# Altium footprint library usbc-female.PcbLib: 1 footprints
Each footprint in its own frame and in the unit in brackets; x right, y up, seen from the top. Pads: shape width x height; smd on the part's side, far side on the other; paste and mask are expansions set on the pad; w line width, h text height; cw(c..) or ccw(c..) is an arc to the next point about the centre after c.
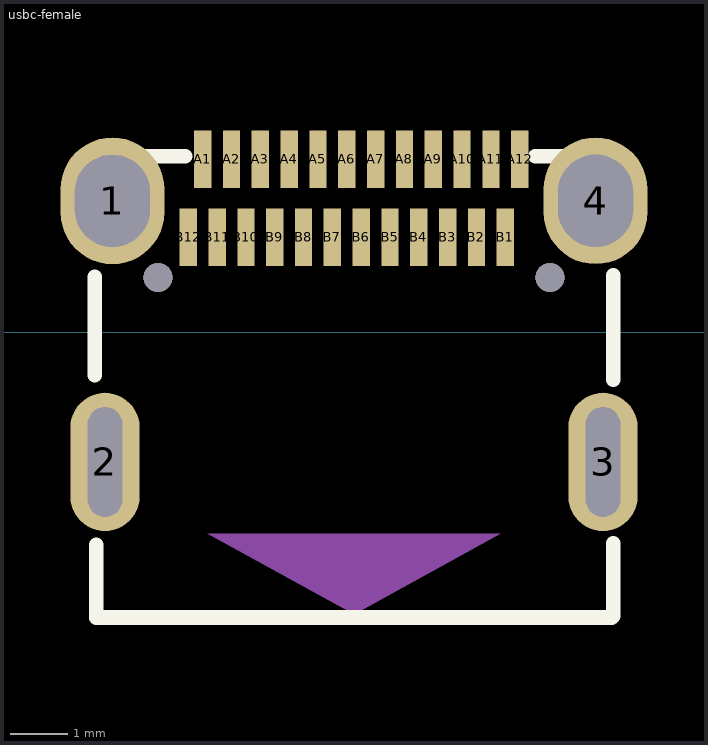
[diagram p0: the footprint, top view; thin cyan lines are the x and y axes]

## usbc-female [mm]
pads (30):
  oval 1.8x2.2 hole 1.3 slot 1.6 at 90 deg: 1(-22.924,2.277) 4(-14.542,2.277)
  oval 1.2x2.4 hole 0.6 slot 1.9 at 90 deg: 2(-23.053,-2.253) 3(-14.413,-2.253)
  rect 0.3x1 smd: A1(-21.358,2.997) A2(-20.858,2.997) A3(-20.358,2.997) A4(-19.858,2.997) A5(-19.358,2.997) A6(-18.858,2.997) A7(-18.358,2.997) A8(-17.858,2.997) A9(-17.358,2.997) A10(-16.858,2.997) A11(-16.358,2.997) A12(-15.858,2.997) B1(-16.108,1.647) B2(-16.608,1.647) B3(-17.108,1.647) B4(-17.608,1.647) B5(-18.108,1.647) B6(-18.608,1.647) B7(-19.108,1.647) B8(-19.608,1.647) B9(-20.108,1.647) B10(-20.608,1.647) B11(-21.108,1.647) B12(-21.608,1.647)
  round 0.5 hole 0.5 unplated: ""(-22.133,0.947) ""(-15.333,0.947)
Top Overlay:
  lines w0.254: -23.233,-0.751 -23.233,0.958 ; -23.202,-3.692 -23.202,-4.953 -14.259,-4.953 -14.233,-4.926 -14.233,-3.666 ; -22.354,3.047 -21.659,3.047 ; -15.585,3.047 -15.119,3.047 ; -14.233,-0.83 -14.233,0.985
Top Paste:
  drawing of 28 lines, arcs and shapes, not listed
Mechanical 15:
  circle w0.2: c-15.333,0.947 r0.1
  circle w0.2: c-22.133,0.947 r0.1
  region: -21.273,-3.501 -16.193,-3.501 -18.733,-4.898